# EAGLE library part CH340E (library CH340)
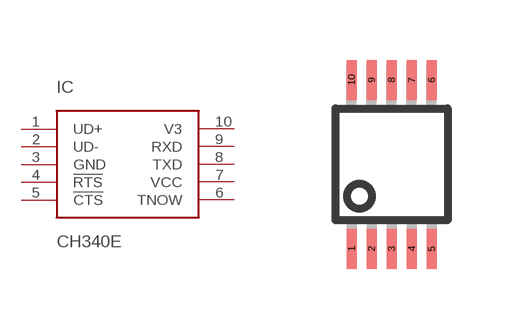
[diagram p0: symbol with the pads of MSOP10; footprint MSOP10]

Designator prefix IC

## CH340E  [MSOP10]
1  UD+
2  UD-
3  GND
4  !RTS!
5  !CTS!
6  TNOW
7  VCC
8  TXD
9  RXD
10  V3

## Footprint MSOP10 (pad centres in mm)
10-Lead Mini Small Outline Package [MSOP] (RM-10) Source: http://www.analog.com/UploadedFiles/Data_Sheets/35641221898805SSM2167_b.pdf COMPLIANT TO JEDEC STANDARDS MO-187BA
smd 0.25 x 1: 1 -1,-2.113; 2 -0.5,-2.113; 3 0,-2.113; 4 0.5,-2.113; 5 1,-2.113; 6 1,2.113; 7 0.5,2.113; 8 0,2.113; 9 -0.5,2.113; 10 -1,2.113